# EAGLE library part MCP23008 (library me433)
MCP23008 - I/O Expander Microchip Technology * Configurable 8-pin I/O Expander * I2C Interface
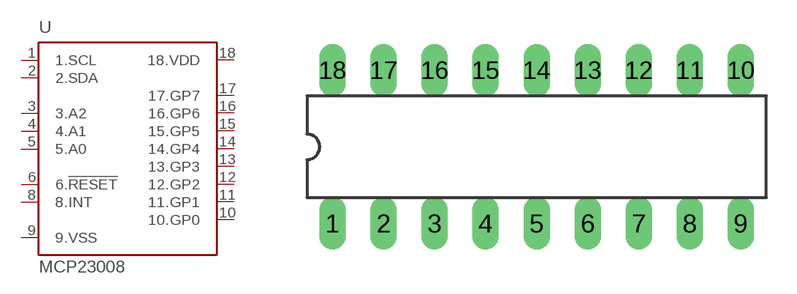
[diagram p4: symbol with the pads of DIP18; footprint DIP18]

Designator prefix -

## MCP23008  [DIP18]
1  1.SCL  in
2  2.SDA  in
3  3.A2  in
4  4.A1  in
5  5.A0  in
6  6.!RESET!  in
8  8.INT  in
9  9.VSS  in
10  10.GP0  in
11  11.GP1  in
12  12.GP2  in
13  13.GP3  in
14  14.GP4  in
15  15.GP5  in
16  16.GP6  in
17  17.GP7  in
18  18.VDD  in

## Footprint DIP18 (pad centres in mm)
Dual In-Line Package (DIP) - 18 Pin * Pin Count : 18 * Pin Pitch : 0.1"
drill 0.813 long: 1 -10.16,-3.81; 2 -7.62,-3.81; 3 -5.08,-3.81; 4 -2.54,-3.81; 5 0,-3.81; 6 2.54,-3.81; 7 5.08,-3.81; 8 7.62,-3.81; 9 10.16,-3.81; 10 10.16,3.81; 11 7.62,3.81; 12 5.08,3.81; 13 2.54,3.81; 14 0,3.81; 15 -2.54,3.81; 16 -5.08,3.81; 17 -7.62,3.81; 18 -10.16,3.81